# Altium schematic symbol library TPS2111APW.SchLib: 1 symbol
Pins are listed as number, name and electrical type; pins without a type are passive.

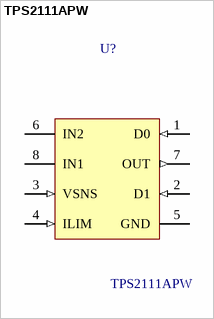
[diagram p0: symbol TPS2111APW]

## TPS2111APW
designator U?
OR Controller Source Selector Switch N-Channel 2:1 8-TSSOP; MF: Texas Instruments; MP: TPS2110APWR; Package: TSSOP-8 Texas Instruments; Price: 2.34; SnapEDA_Link: https://www.snapeda.com/parts/TPS2111APW/Texas%20Instruments/view-part/299213/?ref=snap; Value: *; datasheet link: https://www.ti.com/lit/ds/symlink/tps2111a.pdf; Digikey link: https://www.digikey.com/product-detail/en/texas-instruments/TPS2110APWR/296-16935-1-ND/652789; Supplier 1: Digi-Key; Supplier Part Number 1: 296-26917-5-ND
footprint *SOP65P640X120-8N
pins: 1 D0 (in), 2 D1 (in), 3 VSNS (in), 4 ILIM (in), 5 GND, 6 IN2 (power), 7 OUT (out), 8 IN1 (power)